# Altium footprint library SnapEDApcb.PcbLib: 1 footprints
Each footprint in its own frame and in the unit in brackets; x right, y up, seen from the top. Pads: shape width x height; smd on the part's side, far side on the other; paste and mask are expansions set on the pad; w line width, h text height; cw(c..) or ccw(c..) is an arc to the next point about the centre after c.
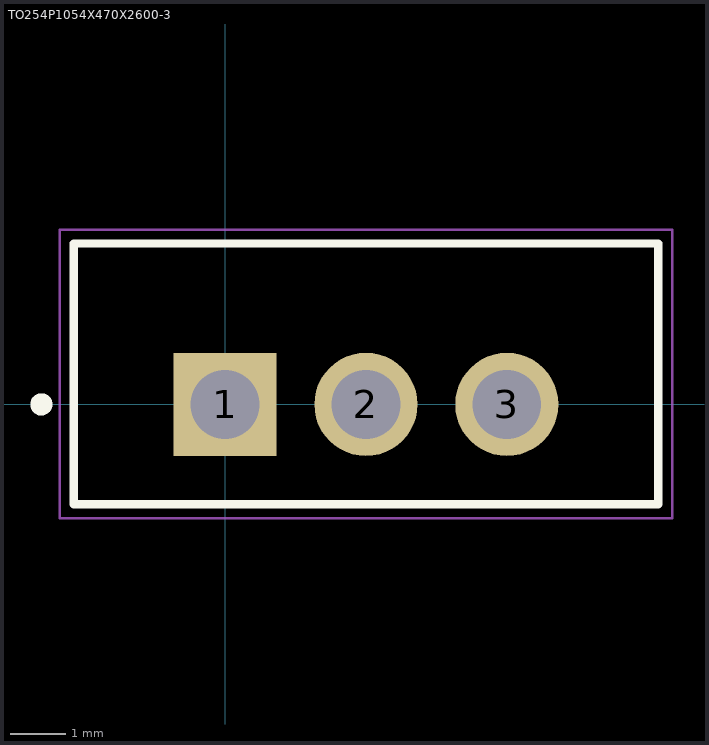
[diagram p0: the footprint, top view; thin cyan lines are the x and y axes]

## TO254P1054X470X2600-3 [mm]
pads (3):
  rect 1.86x1.86 hole 1.24: 1(0,0)
  round 1.86 hole 1.24: 2(2.54,0) 3(5.08,0)
Top Overlay:
  circle w0.2: c-3.31,0 r0.1
  lines w0.152: -2.73,-1.8 7.81,-1.8 7.81,2.9 -2.73,2.9 -2.73,-1.8
Mechanical 13:
  lines w0.127: -2.73,-1.8 7.81,-1.8 7.81,2.9 -2.73,2.9 -2.73,-1.8
Mechanical 15:
  lines w0.05: -2.98,-2.052 -2.98,3.148 8.06,3.148 8.06,-2.052 -2.98,-2.052